# Altium footprint library Gas Monitor Components.PcbLib: 50 footprints (part 1 of 4)
Each footprint in its own frame and in the unit in brackets; x right, y up, seen from the top. Pads: shape width x height; smd on the part's side, far side on the other; paste and mask are expansions set on the pad; w line width, h text height; cw(c..) or ccw(c..) is an arc to the next point about the centre after c.
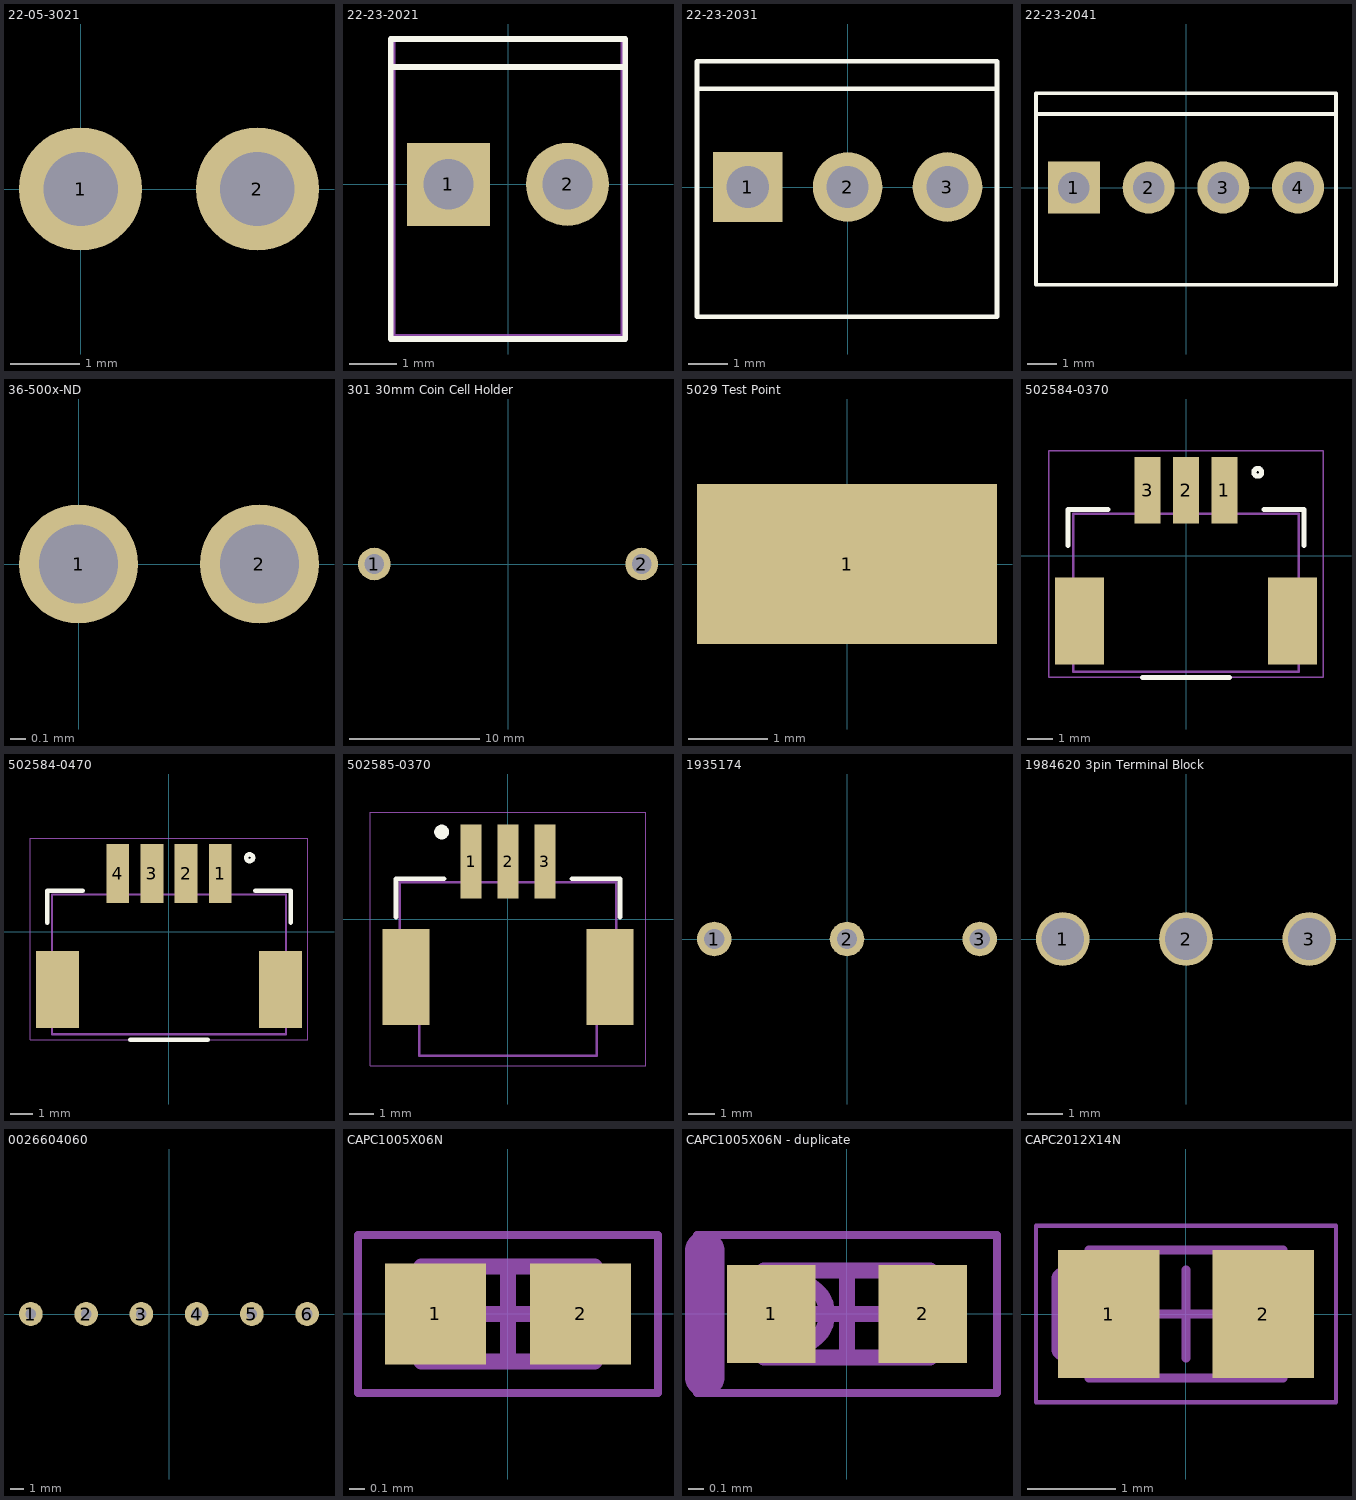
[diagram p0: the footprints below, top view; thin cyan lines are the x and y axes]

## 22-05-3021 [mm]
pads (2):
  round 1.77 hole 1.07: 1(0,0) 2(2.54,0)
3D body "022053021.stp": height 6.38, standoff -3.56, extent -1.214,-0.35 3.714,12.579

## 22-23-2021 [mm]
pads (2):
  rect 1.77x1.77 hole 1.07: 1(-1.27,0)
  round 1.77 hole 1.07: 2(1.27,0)
Top Overlay:
  lines w0.125: -2.5,2.5 2.5,2.5 ; -2.5,-3.3 2.5,-3.3 2.5,3.1 -2.5,3.1 -2.5,-3.3
Mechanical 13:
  lines w0.125: -2.464,-3.251 2.464,-3.251 2.464,3.099 -2.464,3.099 -2.464,-3.251
3D body "022232021.stp": height 10.68, standoff -3.54, extent -2.464,-3.251 2.464,3.099

## 22-23-2031 [mm]
pads (3):
  rect 1.77x1.77 hole 1.07: 1(-2.54,0)
  round 1.77 hole 1.07: 2(0,0) 3(2.54,0)
Top Overlay:
  lines w0.125: -3.77,2.5 3.8,2.5 ; -3.83,-3.3 3.8,-3.3 3.8,3.2 -3.83,3.2 -3.83,-3.3
3D body "022232031.stp": height 10.68, standoff -3.54, extent -3.734,-3.251 3.734,3.099

## 22-23-2041 [mm]
pads (4):
  rect 1.77x1.77 hole 1.07: 1(-3.81,0)
  round 1.77 hole 1.07: 2(-1.27,0) 3(1.27,0) 4(3.81,0)
Top Overlay:
  lines w0.125: -5.04,2.5 5.1,2.5 ; -5.1,-3.3 5.1,-3.3 5.1,3.2 -5.1,3.2 -5.1,-3.3
3D body "022232041.stp": height 10.68, standoff -3.54, extent -5.004,-3.251 5.004,3.099

## 36-500x-ND [mm] "Hook Type Test Point"
height 4.57
pads (2):
  round 0.75 hole 0.5: 1(0,0) 2(1.14,0)

## 301 30mm Coin Cell Holder [mm] "30mm Coin Cell Holder"
height 7.49
pads (2):
  round 2.5 hole 1.52: 1(-10.245,0) 2(10.245,0)

## 5029 Test Point [mm] "Compact SM Test Point"
height 2.29
pads (1):
  rect 3.8x2.03 smd: 1(0,0)

## 502584-0370 [mm]
pads (5):
  rect 1x2.6 smd: 1(1.5,2.55) 2(0,2.55) 3(-1.5,2.55)
  rect 1.9x3.4 smd: ""(-4.15,-2.55) ""(4.15,-2.55)
Top Overlay:
  circle w0.2: c2.8,3.25 r0.15
  lines w0.2: -4.6,0.4 -4.6,1.8 -3.05,1.8 ; -1.7,-4.75 1.7,-4.75 ; 3.05,1.8 4.6,1.8 4.6,0.4
Mechanical 8:
  text "'.Designator'" at 0,0 h0.4
Mechanical 13:
  lines w0.1: -4.4,-4.52 -4.4,1.63 4.4,1.63 4.4,-4.52 -4.4,-4.52
Mechanical 15:
  lines w0.05: -5.35,-4.75 5.35,-4.75 5.35,4.1 -5.35,4.1 -5.35,-4.75
3D body "5025840370.stp": height 7.33, standoff 0.03, extent -4.4,-4.55 4.4,2.85

## 502584-0470 [mm]
pads (6):
  rect 1x2.6 smd: 1(2.25,2.55) 2(0.75,2.55) 3(-0.75,2.55) 4(-2.25,2.55)
  rect 1.9x3.4 smd: ""(-4.9,-2.55) ""(4.9,-2.55)
Top Overlay:
  circle w0.2: c3.55,3.25 r0.15
  lines w0.2: -5.35,0.4 -5.35,1.8 -3.8,1.8 ; -1.7,-4.75 1.7,-4.75 ; 3.8,1.8 5.35,1.8 5.35,0.4
Mechanical 8:
  text "'.Designator'" at 0.75,0 h0.4
Mechanical 13:
  lines w0.1: -5.15,-4.52 5.15,-4.52 5.15,1.63 -5.15,1.63 -5.15,-4.52
Mechanical 15:
  lines w0.05: -6.1,-4.75 -6.1,4.1 6.1,4.1 6.1,-4.75 -6.1,-4.75
3D body "5025840470.stp": height 7.28, standoff -0.02, extent -5.15,-4.572 5.15,2.828

## 502585-0370 [mm] "1.50mm Pitch CLIK-Mate™ Wire-to-Board PCB Receptacle, Single Row, Surface Mount, Right Angle, Tin Plating, 3 Circuits"
pads (5):
  rect 0.85x3 smd: 1(-1.5,2.35) 2(0,2.35) 3(1.5,2.35)
  rect 1.9x3.9 smd: ""(-4.15,-2.35) ""(4.15,-2.35)
Top Overlay:
  circle w0.3: c-2.7,3.55 r0.15
  lines w0.2: -4.55,0.1 -4.55,1.65 -2.6,1.65 ; 2.6,1.65 4.55,1.65 4.55,0.1
Mechanical 8:
  text "'.Designator'" at 0,0 h0.45
Mechanical 13:
  lines w0.1: -4.4,-2.35 -4.4,1.5 4.4,1.5 4.4,-2.35 3.6,-2.35 3.6,-5.55 -3.6,-5.55 -3.6,-2.35 -4.4,-2.35
Mechanical 15:
  lines w0.05: -5.6,-5.95 -5.6,4.35 5.6,4.35 5.6,-5.95 -5.6,-5.95
3D body "5025850370.stp": height -1.7, standoff -8.1, extent -4.4,-5.725 4.4,2.775

## 1935174 [mm] "3-pin 5mm Terminal Block"
height 11.4
pads (3):
  round 1.3 hole 0.762: 1(-5,0) 2(0,0) 3(5,0)

## 1984620 3pin Terminal Block [mil] "3.5mm-pitch, screw-type"
pads (3):
  round 60 hole 47.24: 1(-137.8,0) 2(0,0) 3(137.8,0)

## 0026604060 [mm] "0.156\" 6-pin Molex Male Header"
height 11.43
pads (6):
  round 1.7 hole 0.762: 1(-9.9,0) 2(-5.94,0) 3(-1.98,0) 4(1.98,0) 5(5.94,0) 6(9.9,0)

## CAPC1005X06N [mm] "Chip Capacitor, 2-Leads, Body 1.00x0.50mm, IPC Medium Density"
height 0.6
pads (2):
  rect 0.64x0.64 smd: 1(-0.46,0) 2(0.46,0)
Mechanical 13:
  lines w0.1: -0.55,-0.3 -0.55,0.3 0.55,0.3 0.55,-0.3 -0.55,-0.3
Mechanical 15:
  lines w0.05: -0.95,-0.5 -0.95,0.5 0.95,0.5 0.95,-0.5 -0.95,-0.5
  lines w0.1: -0.3,0 0.3,0 ; 0,-0.3 0,0.3
3D body "CAPC1005X06N.step": height 0.6, standoff 0, extent -0.55,-0.3 0.55,0.3

## CAPC1005X06N - duplicate [mm] "Chip Capacitor, 2-Leads, Body 1.00x0.50mm, IPC Medium Density (0402)"
height 0.55
pads (2):
  rect 0.56x0.62 smd: 1(-0.48,0) 2(0.48,0)
Mechanical 3:
  lines w0.25: -0.9,-0.4 -0.9,0.4
  text "'.Designator'" at -0.7,-0.075 h0.13
Mechanical 13:
  circle w0.1: c-0.325,0 r0.2
  lines w0.1: -0.525,-0.275 0.525,-0.275 0.525,0.275 -0.525,0.275 -0.525,-0.275
Mechanical 15:
  lines w0.05: -0.95,-0.5 0.95,-0.5 0.95,0.5 -0.95,0.5 -0.95,-0.5
  lines w0.1: -0.275,0 0.275,0 ; 0,-0.275 0,0.275
3D body "CAPC1005X06N.step": height 0.55, standoff 0, extent -0.525,-0.275 0.525,0.275

## CAPC2012X14N [mm] "Chip Capacitor, 2-Leads, Body 2.00x1.25mm, IPC Medium Density (0805)"
height 1.45
pads (2):
  rect 1.15x1.45 smd: 1(-0.875,0) 2(0.875,0)
Mechanical 3:
  lines w0.25: -1.4,-0.4 -1.4,0.4
  text "'.Designator'" at -1.4,-0.1 h0.25
Mechanical 13:
  circle w0.1: c-0.9,0 r0.2
  lines w0.1: -1.1,-0.725 1.1,-0.725 1.1,0.725 -1.1,0.725 -1.1,-0.725
Mechanical 15:
  lines w0.05: -1.7,-1 1.7,-1 1.7,1 -1.7,1 -1.7,-1
  lines w0.1: -0.5,0 0.5,0 ; 0,-0.5 0,0.5
3D body "CAPC2012X14N.step": height 1.45, standoff 0, extent -1.1,-0.725 1.1,0.725